# EAGLE library part LT3652 (library BattBoard)
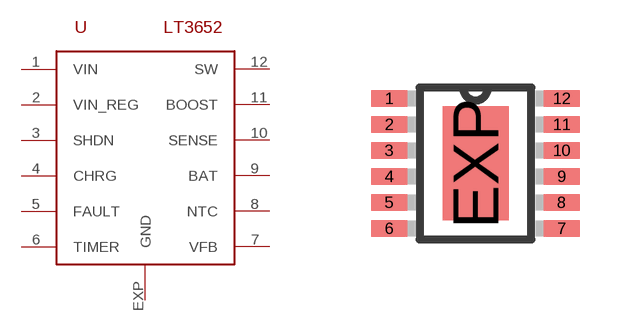
[diagram p1: symbol with the pads of MSOP12; footprint MSOP12]

Designator prefix U

## LT3652  [MSOP12]
1  VIN
2  VIN_REG
3  SHDN
4  CHRG
5  FAULT
6  TIMER
7  VFB
8  NTC
9  BAT
10  SENSE
11  BOOST
12  SW
EXP  GND

## Footprint MSOP12 (pad centres in mm)
MSE Package 12-Lead Plastic MSOP Exposed Die Pad (Reference LTC DWG # 05-08-1666 Rev D) Source: http://cds.linear.com/docs/en/datasheet/3645f.pdf Auto generated by make-symbol-device-package-bsdl.ulp Rev. 44
smd 0.9 x 0.42: 1 -2.163,1.625; 2 -2.163,0.975; 3 -2.163,0.325; 4 -2.163,-0.325; 5 -2.163,-0.975; 6 -2.163,-1.625; 7 2.15,-1.625; 8 2.15,-0.975; 9 2.15,-0.325; 10 2.15,0.325; 11 2.15,0.975; 12 2.15,1.625
smd 1.65 x 2.85: EXP 0,0